# EAGLE library part MC100EPT24DTG (library on-semiconductor-01)
LVTTL/LVCMOS to Differential LVECL Translator
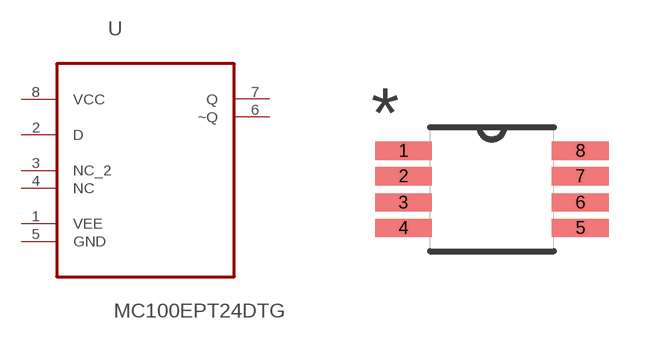
[diagram p134: symbol with the pads of SOP65P490X110-8N; footprint SOP65P490X110-8N]

Designator prefix U

## MC100EPT24DTG (MPN: MC100EPT24DTG; OC_FARNELL: 1607872; OC_NEWARK: 45J0932; PACKAGE: TSSOP-8; SUPPLIER: On Semiconductor)  [SOP65P490X110-8N]
1  VEE  pwr
2  D  in
3  NC_2  in
4  NC  in
5  GND  pas
6  ~Q  out
7  Q  out
8  VCC  pwr

## Footprint SOP65P490X110-8N (pad centres in mm)
smd 1.422 x 0.457: 1 -2.21,0.965; 2 -2.21,0.33; 3 -2.21,-0.33; 4 -2.21,-0.965; 5 2.21,-0.965; 6 2.21,-0.33; 7 2.21,0.33; 8 2.21,0.965